# Altium schematic symbol library sar19-coral-connector.SchLib: 3 symbols
Pins are listed as number, name and electrical type; pins without a type are passive.

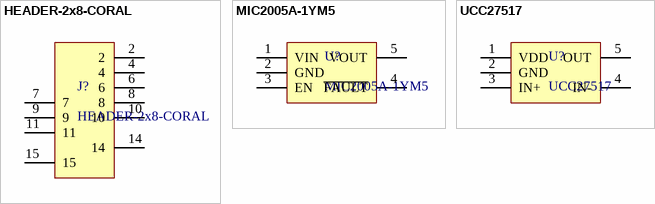
[diagram p0: symbols HEADER-2x8-CORAL to UCC27517]

## HEADER-2x8-CORAL
designator J?
footprint PIN-HEADER-2x8-CORAL
pins: 2, 4, 6, 7, 8, 9, 10, 11, 14, 15

## MIC2005A-1YM5
designator U?
footprint SOT23-5
pins: 1 VIN, 2 GND, 3 EN, 4 ~{FAULT}, 5 VOUT

## UCC27517
designator U?
footprint SOT23-5
pins: 1 VDD, 2 GND, 3 IN+, 4 IN-, 5 OUT